# EAGLE library part TPS62172 (library TPS62172)
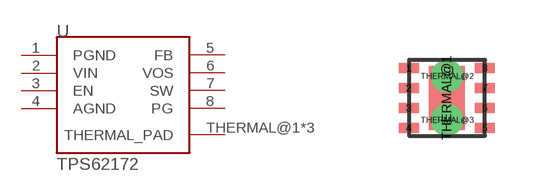
[diagram p0: symbol with the pads of TPS62172; footprint TPS62172]

Designator prefix U

## TPS62172  [TPS62172]
1  PGND
2  VIN
3  EN
4  AGND
5  FB
6  VOS
7  SW
8  PG
THERMAL@1  THERMAL_PAD
THERMAL@2  THERMAL_PAD
THERMAL@3  THERMAL_PAD

## Footprint TPS62172 (pad centres in mm)
Switching Voltage Regulator by Texas Instruments Made by David Antaki http://www.ti.com/product/TPS62172/technicaldocuments
smd 0.5 x 0.25: 1 -0.01,1.5; 2 -0.01,1; 3 -0.01,0.5; 4 -0.01,0; 5 1.9,0; 6 1.9,0.5; 7 1.9,1; 8 1.9,1.5
smd 0.9 x 1.6: THERMAL@1 0.95,0.75
drill 0.3: THERMAL@2 0.95,1.3; THERMAL@3 0.95,0.2